# Altium footprint library 4.80-XT30-XT60车模航模电源接口.PcbLib: 6 footprints
Each footprint in its own frame and in the unit in brackets; x right, y up, seen from the top. Pads: shape width x height; smd on the part's side, far side on the other; paste and mask are expansions set on the pad; w line width, h text height; cw(c..) or ccw(c..) is an arc to the next point about the centre after c.
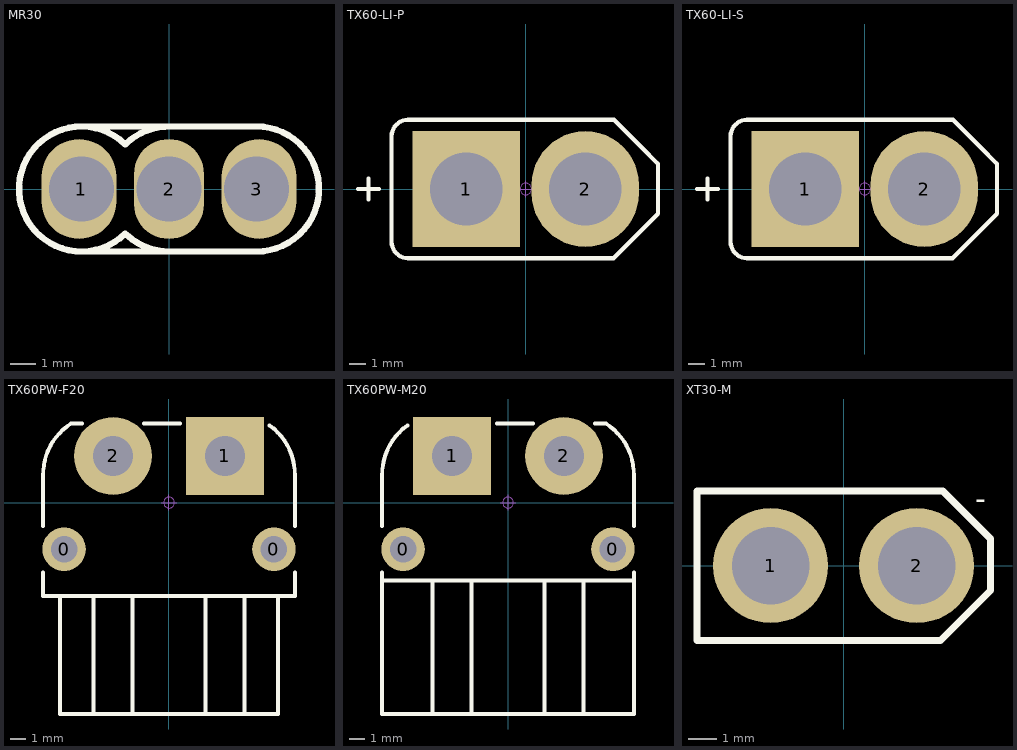
[diagram p0: the footprints below, top view; thin cyan lines are the x and y axes]

## MR30 [mm]
height 24
pads (3):
  oval 3x4 hole 2.6 copper offset -0.1,0: 1(-3.5,0)
  oval 2.8x4 hole 2.6: 2(0,0)
  oval 3x4 hole 2.6 copper offset 0.1,0: 3(3.5,0)
Top Overlay:
  lines w0.254: -3.5,-2.5 3.5,-2.5 ccw(c3.5,0) 3.5,2.5 -3.5,2.5 ; -1.754,1.781 cw(c0,0) -0.172,2.494 ; -1.75,1.785 ccw(c-3.5,0) -1.749,-1.784 ; -1.706,-1.828 ccw(c0,0) 0.055,-2.499
3D body "MR30.STEP": height 10.51, standoff -2.89, extent -5.95,-2.6 6.35,2.7

## TX60-LI-P [mm] "长：16mm，宽：8.2mm，高：16mm     淘宝ID:黄晶宝石"
pads (2):
  rect 6.5x7 hole 4.4: 1(-3.6,0)
  oval 6.5x7 hole 4.4: 2(3.6,0)
Top Overlay:
  lines w0.254: -10.16,0 -8.89,0 ; -9.525,-0.635 -9.525,0.635 ; -8.128,-3.191 ccw(c-7.128,-3.191) -7.128,-4.191 5.309,-4.191 8,-1.5 8,1.525 6.985,2.54 5.334,4.191 -7.128,4.191 ccw(c-7.128,3.191) -8.128,3.191 -8.128,-3.191
Mechanical 15:
  circle w0.05: c0,0 r0.35
  lines w0.05: -0.5,0 0.5,0 ; 0,-0.5 0,0.5
3D body "XT60_F.STEP": height 17.3, standoff -4, extent -8.1,-4.3 7.9,3.8

## TX60-LI-S [mm] "长：16mm，宽：8.2mm，高：16mm"
pads (2):
  rect 6.5x7 hole 4.4: 1(-3.6,0)
  oval 6.5x7 hole 4.4: 2(3.6,0)
Top Overlay:
  lines w0.254: -10.16,0 -8.89,0 ; -9.525,-0.635 -9.525,0.635 ; -8.128,-3.191 ccw(c-7.128,-3.191) -7.128,-4.191 5.309,-4.191 8,-1.5 8,1.525 6.985,2.54 5.334,4.191 -7.128,4.191 ccw(c-7.128,3.191) -8.128,3.191 -8.128,-3.191
Mechanical 15:
  circle w0.05: c0,0 r0.35
  lines w0.05: -0.5,0 0.5,0 ; 0,-0.5 0,0.5
3D body "XT60_M.STEP": height 16.5, standoff -4.7, extent -7.75,-4.1 8.15,4.05

## TX60PW-F20 [mm] "长：18.8mm， 宽：16mm，高：8.6mm"
pads (4):
  round 2.8 hole 1.7: 0(-6.75,-3) 0(6.75,-3)
  rect 5x5 hole 2.6: 1(3.6,3)
  round 5 hole 2.6: 2(-3.6,3)
Top Overlay:
  lines w0.254: -8.1,-4.5 -8.1,-6 8.1,-6 8.1,-4.5 ; -8.1,-1.5 -8.1,1.738 cw(c-4.2,1.8) -6.294,5.091 ; -7,-6 -7,-13.6 7,-13.6 7,-6 ; -6.294,5.1 -5.6,5.1 ; -4.85,-13.6 -4.85,-6 ; -2.35,-13.6 -2.35,-6 ; -1.6,5.1 0.7,5.1 ; 2.35,-13.6 2.35,-6 ; 4.85,-13.6 4.85,-6 ; 6.476,4.967 cw(c4.2,1.8) 8.1,1.738 ; 8.1,-1.5 8.1,1.792 ; 0,-6 ccw(c0,-6) 0,-6
Mechanical 15:
  circle w0.05: c0,0 r0.35
  lines w0.05: -0.5,0 0.5,0 ; 0,-0.5 0,0.5
3D body "tx60pw-f20.STEP": height 8.65, standoff -2.35, extent -8,-13.6 8,5.02

## TX60PW-M20 [mm] "长：18.8mm， 宽：16mm，高：8.6mm     淘宝ID:黄晶宝石"
pads (4):
  round 2.8 hole 1.7: 0(-6.75,-3) 0(6.75,-3)
  rect 5x5 hole 2.6: 1(-3.6,3)
  round 5 hole 2.6: 2(3.6,3)
Top Overlay:
  lines w0.254: -8.1,-4.5 -8.1,-5 ; -8.1,-1.5 -8.1,1.792 ; -8.1,1.738 cw(c-4.2,1.8) -6.476,4.967 ; -4.85,-13.6 -4.85,-5 ; -2.35,-13.6 -2.35,-5 ; -0.7,5.1 1.6,5.1 ; 2.35,-13.6 2.35,-5 ; 4.85,-13.6 4.85,-5 ; 5.6,5.1 6.294,5.1 ; 6.294,5.091 cw(c4.2,1.8) 8.1,1.738 8.1,-1.5 ; 8.1,-4.5 8.1,-5 ; -8.1,-5 -8.1,-13.6 8.1,-13.6 8.1,-5 ; -8.1,-5 8.1,-5
Mechanical 15:
  circle w0.05: c0,0 r0.35
  lines w0.05: -0.5,0 0.5,0 ; 0,-0.5 0,0.5
3D body "tx60pw-m20.STEP": height 8.65, standoff -2.35, extent -8,-13.6 8,5.02

## XT30-M [mm]
height 24
pads (2):
  round 4 hole 2.7: 1(-2.54,0) 2(2.54,0)
Top Overlay:
  lines w0.254: 3.454,2.6 -5.1,2.6 -5.1,-2.6 3.369,-2.6 5.105,-0.864 5.105,0.94 3.511,2.535
  text "-" at 4.572,1.956 h0.76
Bottom Overlay:
  text "-" at 5.08,1.956 h0.76
  text "+" at -4.88,-2.775 h0.51
3D body "XT30u-m.STEP": height 10.66, standoff -3.04, extent -5.1,-2.8 5.1,2.8